# EAGLE library part LC8632XXA (library LC8632XXA)
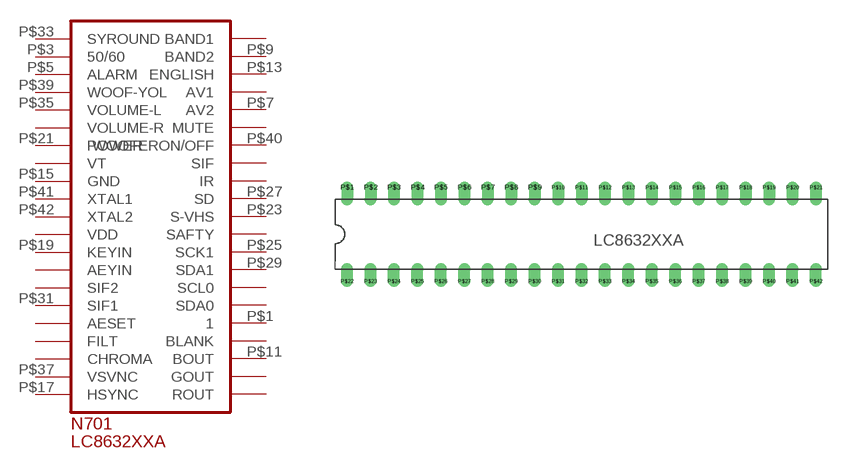
[diagram p0: symbol with the pads of LC8632XXA; footprint LC8632XXA]

Designator prefix -

## LC8632XXAL  [LC8632XXA]
P$1  1
P$3  50/60  in
P$5  ALARM  in
P$7  AV2
P$9  BAND2  oc
P$11  BOUT
P$13  ENGLISH  oc
P$15  GND  pwr
P$17  HSYNC
P$19  KEYIN
P$21  POWER  pwr
P$23  S-VHS
P$25  SCK1
P$27  SD
P$29  SDA1
P$31  SIF1
P$33  SYROUND  in
P$35  VOLUME-L  in
P$37  VSVNC
P$39  WOOF-YOL  in
P$40  WOOFERON/OFF
P$41  XTAL1  in
P$42  XTAL2  in

## Footprint LC8632XXA (pad centres in mm)
drill 0.813 offset: P$1 -27.94,5.08; P$2 -25.4,5.08; P$3 -22.86,5.08; P$4 -20.32,5.08; P$5 -17.78,5.08; P$6 -15.24,5.08; P$7 -12.7,5.08; P$8 -10.16,5.08; P$9 -7.62,5.08; P$10 -5.08,5.08; P$11 -2.54,5.08; P$12 0,5.08; P$13 2.54,5.08; P$14 5.08,5.08; P$15 7.62,5.08; P$16 10.16,5.08; P$17 12.7,5.08; P$18 15.24,5.08; P$19 17.78,5.08; P$20 20.32,5.08; P$21 22.86,5.08; P$22 -27.94,-5.08; P$23 -25.4,-5.08; P$24 -22.86,-5.08; P$25 -20.32,-5.08; P$26 -17.78,-5.08; P$27 -15.24,-5.08; P$28 -12.7,-5.08; P$29 -10.16,-5.08; P$30 -7.62,-5.08; P$31 -5.08,-5.08; P$32 -2.54,-5.08; P$33 0,-5.08; P$34 2.54,-5.08; P$35 5.08,-5.08; P$36 7.62,-5.08; P$37 10.16,-5.08; P$38 12.7,-5.08; P$39 15.24,-5.08; P$40 17.78,-5.08; P$41 20.32,-5.08; P$42 22.86,-5.08